# Altium footprint library clock.PcbLib: 6 footprints
Each footprint in its own frame and in the unit in brackets; x right, y up, seen from the top. Pads: shape width x height; smd on the part's side, far side on the other; paste and mask are expansions set on the pad; w line width, h text height; cw(c..) or ccw(c..) is an arc to the next point about the centre after c.
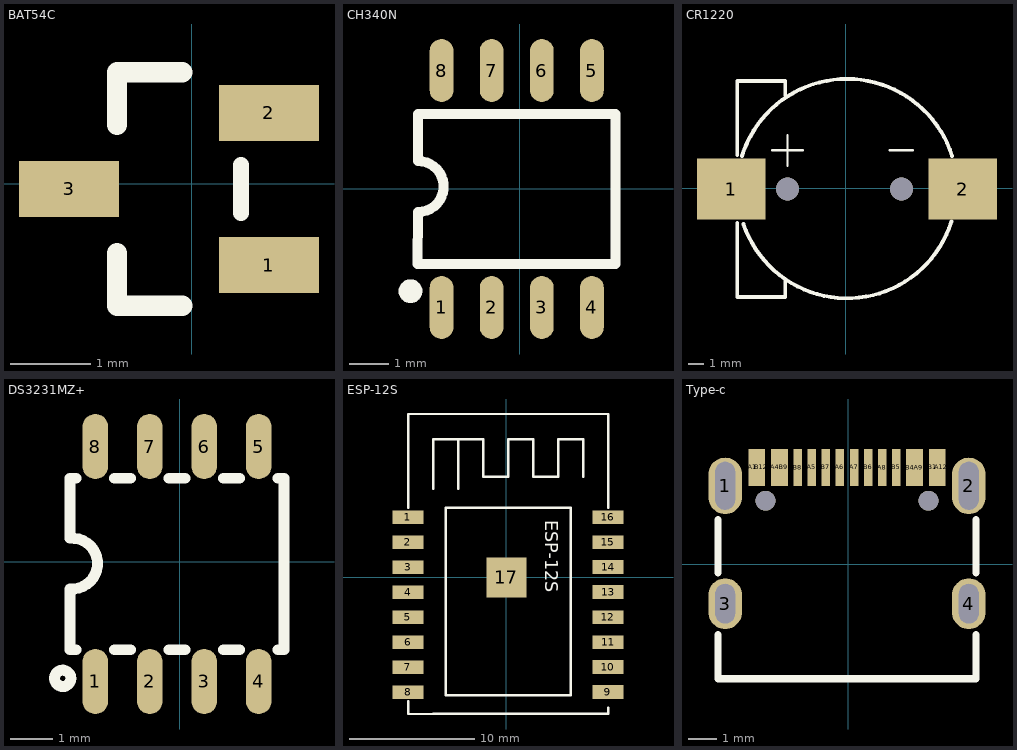
[diagram p0: the footprints below, top view; thin cyan lines are the x and y axes]

## BAT54C [mm]
pads (3):
  rect 1.25x0.7 smd: 1(0.965,-1.014) 2(0.965,0.886) 3(-1.534,-0.064)
Top Overlay:
  lines w0.2: 0.616,-0.364 0.616,0.236
  lines w0.254: -0.934,-0.864 -0.934,-1.524 -0.119,-1.524 ; -0.119,1.396 -0.934,1.396 ; -0.934,0.736 -0.934,1.396 ; -0.934,0.736 -0.934,1.396 ; -0.934,0.736 -0.934,1.396

## CH340N [mm]
pads (8):
  oval 0.6x1.598 smd: 1(-1.985,-3.011) 2(-0.715,-3.011) 3(0.555,-3.011) 4(1.825,-3.011) 5(1.825,2.989) 6(0.555,2.989) 7(-0.715,2.989) 8(-1.985,2.989)
Top Overlay:
  lines w0.254: -2.594,-1.916 -2.58,-0.595 ccw(c-2.58,0.052) -2.58,0.7 -2.58,1.889 2.42,1.889 2.42,-1.911 -2.58,-1.911
  lines w0.3: -2.772,-2.449 ccw(c-2.771,-2.599) -2.77,-2.449

## CR1220 [mm]
pads (4):
  rect 4.5x4 smd: 1(-7.529,-0.045) 2(7.711,-0.045)
  round 1.5 hole 1.5 unplated: ""(-3.82,-0.045) ""(3.673,-0.045)
Top Overlay:
  lines w0.152: -4.836,2.495 -2.804,2.495 ; -3.82,1.479 -3.82,3.511 ; 2.911,2.495 4.435,2.495
  lines w0.254: -7.129,-2.276 -7.129,-7.157 -3.973,-7.157 -3.973,-5.957 ; -7.129,2.186 -7.129,7.067 -3.973,7.067 -3.973,6.126 ; -6.82,2.13 cw(c0.091,-0.045) 7.009,2.109 ; -6.724,-2.342 ccw(c0.091,-0.045) 6.963,-2.169

## DS3231MZ+ [mm]
pads (8):
  oval 0.6x1.518 smd: 1(-1.968,-2.797) 2(-0.699,-2.797) 3(0.572,-2.797) 4(1.841,-2.797) 5(1.841,2.683) 6(0.572,2.683) 7(-0.699,2.683) 8(-1.968,2.683)
Top Overlay:
  circle w0.254: c-2.73,-2.724 r0.191
  lines w0.254: -2.563,-0.637 -2.563,-2.057 -2.419,-2.057 ; -2.563,0.543 -2.563,1.943 -2.419,1.943 ; -2.553,-0.637 ccw(c-2.509,-0.047) -2.553,0.543 ; -1.518,-2.057 -1.149,-2.057 ; -1.518,1.943 -1.149,1.943 ; -0.248,-2.057 0.121,-2.057 ; -0.248,1.943 0.121,1.943 ; 1.022,-2.057 1.391,-2.057 ; 1.022,1.943 1.391,1.943 ; 2.292,-2.057 2.436,-2.057 2.436,1.943 2.292,1.943

## ESP-12S [mm]
pads (17):
  rect 2.5x1.1 smd: 1(-7.874,4.826) 2(-7.873,2.815) 3(-7.872,0.822) 4(-7.873,-1.187) 5(-7.874,-3.183) 6(-7.873,-5.179) 7(-7.874,-7.183) 8(-7.873,-9.179) 9(8.129,-9.172) 10(8.128,-7.174) 11(8.129,-5.174) 12(8.128,-3.174) 13(8.129,-1.172) 14(8.13,0.827) 16(8.128,4.826)
  rect 2.499x1.1 smd: 15(8.128,2.826)
  rect 3.2x3.2 smd: 17(0,0)
Top Overlay:
  lines w0.2: -7.869,5.578 -7.869,13.078 8.131,13.078 8.131,5.578 ; -7.861,-9.924 -7.861,-10.925 -5.86,-10.925 ; -5.87,7.079 -5.87,11.077 -1.869,11.077 -1.869,8.077 0.132,8.077 0.132,11.077 2.131,11.077 2.131,8.077 4.13,8.077 4.13,11.077 6.132,11.077 6.132,8.077 ; -5.842,-10.922 6.096,-10.922 ; -3.868,7.079 -3.868,11.077 ; 6.132,-10.922 8.131,-10.922 8.131,-10.422 ; -4.869,-9.423 5.131,-9.423 5.131,5.578 -4.869,5.578 -4.869,-9.423
  text "ESP-12S" at 3.119,4.577 h1.02

## Type-c [mm]
pads (22):
  oval 1.2x2 hole 0.7 slot 1.7 at 90 deg: 1(-4.357,2.781) 2(4.283,2.781)
  oval 1.2x1.8 hole 0.7 slot 1.4 at 90 deg: 3(-4.357,-1.399) 4(4.283,-1.399)
  rect 0.3x1.3 smd: A1(-3.387,3.431) A4(-2.587,3.431) A5(-1.287,3.431) A6(-0.287,3.431) A7(0.213,3.431) A8(1.213,3.431) A9(2.513,3.431) A12(3.313,3.431) B1(3.013,3.431) B4(2.213,3.431) B5(1.713,3.431) B6(0.713,3.431) B7(-0.787,3.431) B8(-1.787,3.431) B9(-2.287,3.431) B12(-3.087,3.431)
  round 0.7 hole 0.7 unplated: ""(-2.927,2.251) ""(2.853,2.251)
Top Overlay:
  lines w0.254: -4.609,-2.491 -4.609,-4.064 4.535,-4.064 4.535,-2.491 ; -4.609,-0.307 -4.609,1.589 ; 4.535,-0.307 4.535,1.589